# EAGLE library part ADXRS620 (library custom)
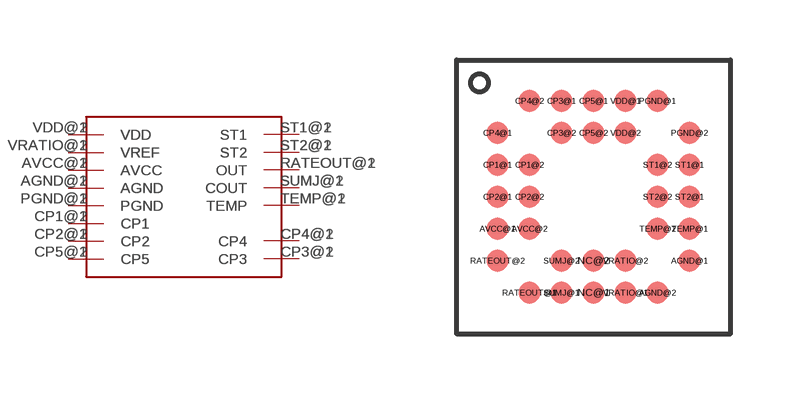
[diagram p1: symbol with the pads of ADXRS620; footprint ADXRS620]

Designator prefix -

## ADXRS620  [ADXRS620]
AGND@1  AGND  pwr
AGND@2  AGND  pwr
AVCC@1  AVCC  pwr
AVCC@2  AVCC  pwr
CP1@1  CP1
CP1@2  CP1
CP2@1  CP2
CP2@2  CP2
CP3@1  CP3
CP3@2  CP3
CP4@1  CP4
CP4@2  CP4
CP5@1  CP5
CP5@2  CP5
PGND@1  PGND  pwr
PGND@2  PGND  pwr
RATEOUT@1  OUT  out
RATEOUT@2  OUT  out
ST1@1  ST1
ST1@2  ST1
ST2@1  ST2
ST2@2  ST2
SUMJ@1  COUT  out
SUMJ@2  COUT  out
TEMP@1  TEMP  out
TEMP@2  TEMP  out
VDD@1  VDD  pwr
VDD@2  VDD  pwr
VRATIO@1  VREF  pwr
VRATIO@2  VREF  pwr

## Footprint ADXRS620 (pad centres in mm)
smd 0.55 x 0.55: AGND@1 2.4,-1.6; AGND@2 1.6,-2.4; AVCC@1 -2.4,-0.8; AVCC@2 -1.6,-0.8; CP1@1 -2.4,0.8; CP1@2 -1.6,0.8; CP2@1 -2.4,0; CP2@2 -1.6,0; CP3@1 -0.8,2.4; CP3@2 -0.8,1.6; CP4@1 -2.4,1.6; CP4@2 -1.6,2.4; CP5@1 0,2.4; CP5@2 0,1.6; NC@1 0,-2.4; NC@2 0,-1.6; PGND@1 1.6,2.4; PGND@2 2.4,1.6; RATEOUT@1 -1.6,-2.4; RATEOUT@2 -2.4,-1.6; ST1@1 2.4,0.8; ST1@2 1.6,0.8; ST2@1 2.4,0; ST2@2 1.6,0; SUMJ@1 -0.8,-2.4; SUMJ@2 -0.8,-1.6; TEMP@1 2.4,-0.8; TEMP@2 1.6,-0.8; VDD@1 0.8,2.4; VDD@2 0.8,1.6; VRATIO@1 0.8,-2.4; VRATIO@2 0.8,-1.6